# EAGLE library part DX4R005HJ5R2000 (library synapseWearV1-4)
RCPT MICRO USB 2.0 B SMT H/D
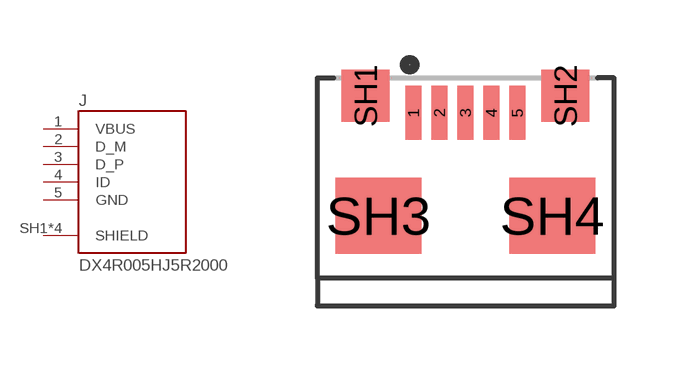
[diagram p10: symbol with the pads of JAE_DX4R005HJ5R2000; footprint JAE_DX4R005HJ5R2000]

Designator prefix J

## DX4R005HJ5R2000 (Availability: Good; Description: RCPT MICRO USB 2.0 B SMT H/D; MF: JAE Electronics; MP: DX4R005HJ5R2000; Package: None; Price: 115.69 USD)  [JAE_DX4R005HJ5R2000]
1  VBUS  pas
2  D_M  pas
3  D_P  pas
4  ID  pas
5  GND  pas
SH1  SHIELD  pas
SH2  SHIELD  pas
SH3  SHIELD  pas
SH4  SHIELD  pas

## Footprint JAE_DX4R005HJ5R2000 (pad centres in mm)
smd 0.4 x 1.35: 1 -1.3,0; 2 -0.65,0; 3 0,0; 4 0.65,0; 5 1.3,0
smd 1.2 x 1.3: SH1 -2.5,0.425; SH2 2.5,0.425
smd 2.15 x 1.9: SH3 -2.175,-2.575; SH4 2.175,-2.575